# Altium schematic symbol library Schlib1.SchLib: 71 symbols
Pins are listed as number, name and electrical type; pins without a type are passive.

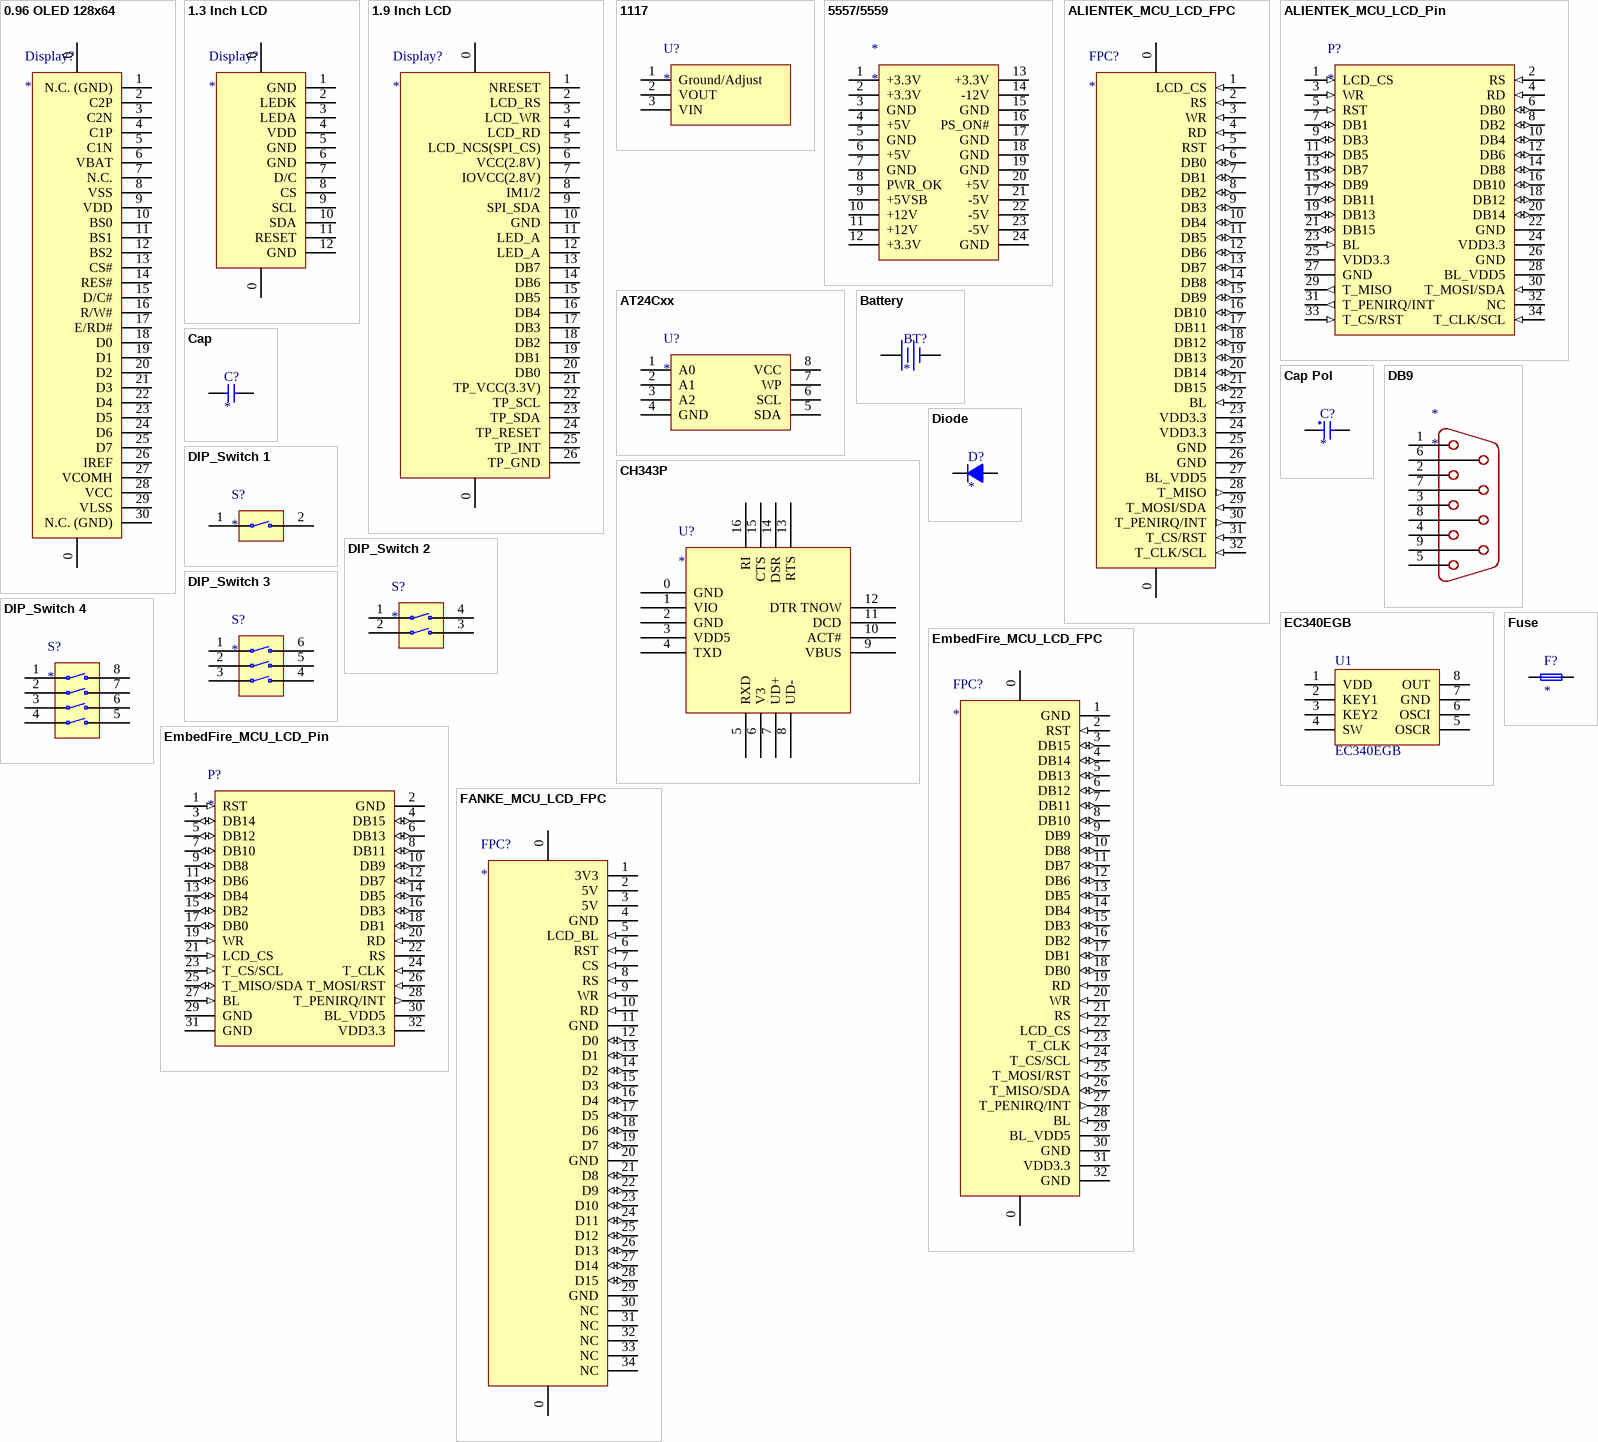
[diagram p0: symbols 0.96 OLED 128x64 to Fuse]

## 0.96 OLED 128x64
designator Display?
0.96 寸 128x64 OLED 显示屏 SSD1306驱动 中景园电子 上接/下接FPC 30P 0.5mm 间距插接式
footprint 0.96 OLED 128x64
pins: 0, 0, 1 N.C. (GND), 2 C2P, 3 C2N, 4 C1P, 5 C1N, 6 VBAT, 7 N.C., 8 VSS, 9 VDD, 10 BS0, 11 BS1, 12 BS2, 13 CS#, 14 RES#, 15 D/C#, 16 R/W#, 17 E/RD#, 18 D0, 19 D1, 20 D2, 21 D3, 22 D4, 23 D5, 24 D6, 25 D7, 26 IREF, 27 VCOMH, 28 VCC, 29 VLSS, 30 N.C. (GND)
1 alternate drawing of the same symbol

## 1.3 Inch LCD
designator Display?
1.3 寸 240x240 LCD 显示屏 ST7789 驱动
pins: 0, 0, 1 GND, 2 LEDK, 3 LEDA, 4 VDD, 5 GND, 6 GND, 7 D/C, 8 CS, 9 SCL, 10 SDA, 11 RESET, 12 GND

## 1.9 Inch LCD
designator Display?
思迈微 1.9 寸 170x320 LCD 显示屏 ST7789V2 驱动 带电容触摸 IC:CST816D
footprint 1.9 Inch LCD
pins: 0, 0, 1 NRESET, 2 LCD_RS, 3 LCD_WR, 4 LCD_RD, 5 LCD_NCS(SPI_CS), 6 VCC(2.8V), 7 IOVCC(2.8V), 8 IM1/2, 9 SPI_SDA, 10 GND, 11 LED_A, 12 LED_A, 13 DB7, 14 DB6, 15 DB5, 16 DB4, 17 DB3, 18 DB2, 19 DB1, 20 DB0, 21 TP_VCC(3.3V), 22 TP_SCL, 23 TP_SDA, 24 TP_RESET, 25 TP_INT, 26 TP_GND
1 alternate drawing of the same symbol

## 1117
designator U?
footprint SOT-89
pins: 1 Ground/Adjust , 2 VOUT, 3 VIN
1 alternate drawing of the same symbol

## 5557/5559
designator *
pins: 1 +3.3V, 2 +3.3V, 3 GND, 4 +5V, 5 GND, 6 +5V, 7 GND, 8 PWR_OK, 9 +5VSB, 10 +12V, 11 +12V, 12 +3.3V, 13 +3.3V, 14 -12V, 15 GND, 16 PS_ON#, 17 GND, 18 GND, 19 GND, 20 +5V, 21 -5V, 22 -5V, 23 -5V, 24 GND

## ALIENTEK_MCU_LCD_FPC
designator FPC?
正点原子MCU LCD屏幕FPC
footprint X05B20L32x (XKB，0.5mm(H=2.0mm)，32P，抽屉式，下接，T:镀锡 G:镀锡)
footprint X05B20U32x (XKB，0.5mm(H=2.0mm)，32P，抽屉式，上接，T:镀锡 G:镀锡)
pins: 0, 0, 1 LCD_CS (in), 2 RS (in), 3 WR (in), 4 RD (in), 5 RST (in), 6 DB0 (io), 7 DB1 (io), 8 DB2 (io), 9 DB3 (io), 10 DB4 (io), 11 DB5 (io), 12 DB6 (io), 13 DB7 (io), 14 DB8 (io), 15 DB9 (io), 16 DB10 (io), 17 DB11 (io), 18 DB12 (io), 19 DB13 (io), 20 DB14 (io), 21 DB15 (io), 22 BL (in), 23 VDD3.3 (power), 24 VDD3.3 (power), 25 GND (power), 26 GND (power), 27 BL_VDD5 (power), 28 T_MISO (out), 29 T_MOSI/SDA (in), 30 T_PENIRQ/INT (out), 31 T_CS/RST (in), 32 T_CLK/SCL (in)
1 alternate drawing of the same symbol

## ALIENTEK_MCU_LCD_Pin
designator P?
正点原子MCU LCD屏幕排针
footprint 2.54mm 2x17P
footprint 2.54mm 2x17P Stand SMD
pins: 1 LCD_CS (in), 2 RS (in), 3 WR (in), 4 RD (in), 5 RST (in), 6 DB0 (io), 7 DB1 (io), 8 DB2 (io), 9 DB3 (io), 10 DB4 (io), 11 DB5 (io), 12 DB6 (io), 13 DB7 (io), 14 DB8 (io), 15 DB9 (io), 16 DB10 (io), 17 DB11 (io), 18 DB12 (io), 19 DB13 (io), 20 DB14 (io), 21 DB15 (io), 22 GND (power), 23 BL (in), 24 VDD3.3 (power), 25 VDD3.3 (power), 26 GND (power), 27 GND (power), 28 BL_VDD5 (power), 29 T_MISO (out), 30 T_MOSI/SDA (in), 31 T_PENIRQ/INT (out), 32 NC, 33 T_CS/RST (in), 34 T_CLK/SCL (in)
1 alternate drawing of the same symbol

## AT24Cxx
designator U?
EEPROM
footprint SOP-8(SOIC-8)
footprint UDFN-8(2x3)
pins: 1 A0, 2 A1, 3 A2, 4 GND, 5 SDA, 6 SCL, 7 WP, 8 VCC
1 alternate drawing of the same symbol

## Battery
designator BT?
footprint BS-12-B3AA003/BS-12-B2AA002 (CR1220 Battery Holder)
footprint BS-12-B3AA011/BS-12-B3AA009 (CR1220 Battery Holder)
footprint CR2450
pins: 1, 2

## Cap
designator C?
footprint 0402-C
footprint 0603-C
footprint 0805-C
footprint 1206-C
footprint 1210-C
pins: 1, 2

## Cap Pol
designator C?
pins: 1, 2

## CH343P
designator U?
USB 转高速串口
footprint QFN-16-EP(3x3)
pins: 0 GND, 1 VIO, 2 GND, 3 VDD5, 4 TXD, 5 RXD, 6 V3, 7 UD+, 8 UD-, 9 VBUS, 10 ACT#, 11 DCD, 12 DTR TNOW, 13 RTS, 14 DSR, 15 CTS, 16 RI
1 alternate drawing of the same symbol

## DB9
designator *
footprint D-Sub 9P female (Ckmtw(灿科盟) D-DMR009PF-D002(C141882))
footprint D-Sub 9P male (Ckmtw(灿科盟) D-DMR009PM-D002(C141880))
pins: 1, 2, 3, 4, 5, 6, 7, 8, 9
1 alternate drawing of the same symbol

## Diode
designator D?
footprint SOD-123
footprint SOD-323
pins: 1, 2

## DIP_Switch 1
designator S?
footprint DSHP01TS-S
pins: 1, 2

## DIP_Switch 2
designator S?
footprint DSHP02TS-S
pins: 1, 2, 3, 4

## DIP_Switch 3
designator S?
footprint DSHP03TS-S
pins: 1, 2, 3, 4, 5, 6

## DIP_Switch 4
designator S?
footprint DSHP04TS-S
pins: 1, 2, 3, 4, 5, 6, 7, 8

## EC340EGB
designator U1
丽晶微电子 定时芯片 (于)
footprint SOP-8(SOIC-8)
pins: 1 VDD, 2 KEY1, 3 KEY2, 4 SW, 5 OSCR, 6 OSCI, 7 GND, 8 OUT

## EmbedFire_MCU_LCD_FPC
designator FPC?
野火电子MCU LCD屏幕FPC
footprint X05B20L32x (XKB，0.5mm(H=2.0mm)，32P，抽屉式，下接，T:镀锡 G:镀锡)
footprint X05B20U32x (XKB，0.5mm(H=2.0mm)，32P，抽屉式，上接，T:镀锡 G:镀锡)
pins: 0, 0, 1 GND (power), 2 RST (in), 3 DB15 (io), 4 DB14 (io), 5 DB13 (io), 6 DB12 (io), 7 DB11 (io), 8 DB10 (io), 9 DB9 (io), 10 DB8 (io), 11 DB7 (io), 12 DB6 (io), 13 DB5 (io), 14 DB4 (io), 15 DB3 (io), 16 DB2 (io), 17 DB1 (io), 18 DB0 (io), 19 RD (in), 20 WR (in), 21 RS (in), 22 LCD_CS (in), 23 T_CLK (in), 24 T_CS/SCL (in), 25 T_MOSI/RST (in), 26 T_MISO/SDA (io), 27 T_PENIRQ/INT (out), 28 BL (in), 29 BL_VDD5 (power), 30 GND (power), 31 VDD3.3 (power), 32 GND (power)
1 alternate drawing of the same symbol

## EmbedFire_MCU_LCD_Pin
designator P?
野火电子MCU LCD屏幕排针
footprint 2.54mm 2x16P
footprint 2.54mm 2x16P Stand SMD
pins: 1 RST (in), 2 GND (power), 3 DB14 (io), 4 DB15 (io), 5 DB12 (io), 6 DB13 (io), 7 DB10 (io), 8 DB11 (io), 9 DB8 (io), 10 DB9 (io), 11 DB6 (io), 12 DB7 (io), 13 DB4 (io), 14 DB5 (io), 15 DB2 (io), 16 DB3 (io), 17 DB0 (io), 18 DB1 (io), 19 WR (in), 20 RD (in), 21 LCD_CS (in), 22 RS (power), 23 T_CS/SCL (in), 24 T_CLK (in), 25 T_MISO/SDA (io), 26 T_MOSI/RST (in), 27 BL (in), 28 T_PENIRQ/INT (out), 29 GND (power), 30 BL_VDD5 (power), 31 GND (power), 32 VDD3.3 (power)
1 alternate drawing of the same symbol

## FANKE_MCU_LCD_FPC
designator FPC?
反客科技MCU LCD屏幕FPC
footprint X05B20L34x (XKB，0.5mm(H=2.0mm)，34P，抽屉式，下接，T:镀锡 G:镀锡)
footprint X05B20U34x (XKB，0.5mm(H=2.0mm)，34P，抽屉式，上接，T:镀锡 G:镀锡)
pins: 0, 0, 1 3V3 (power), 2 5V (power), 3 5V (power), 4 GND (power), 5 LCD_BL (in), 6 RST (in), 7 CS (in), 8 RS (in), 9 WR (in), 10 RD (in), 11 GND (power), 12 D0 (io), 13 D1 (io), 14 D2 (io), 15 D3 (io), 16 D4 (io), 17 D5 (io), 18 D6 (io), 19 D7 (io), 20 GND (power), 21 D8 (io), 22 D9 (io), 23 D10 (io), 24 D11 (io), 25 D12 (io), 26 D13 (io), 27 D14 (io), 28 D15 (io), 29 GND (power), 30 NC, 31 NC, 32 NC, 33 NC, 34 NC

## Fuse
designator F?
footprint 0805-F
pins: 1, 2
1 alternate drawing of the same symbol

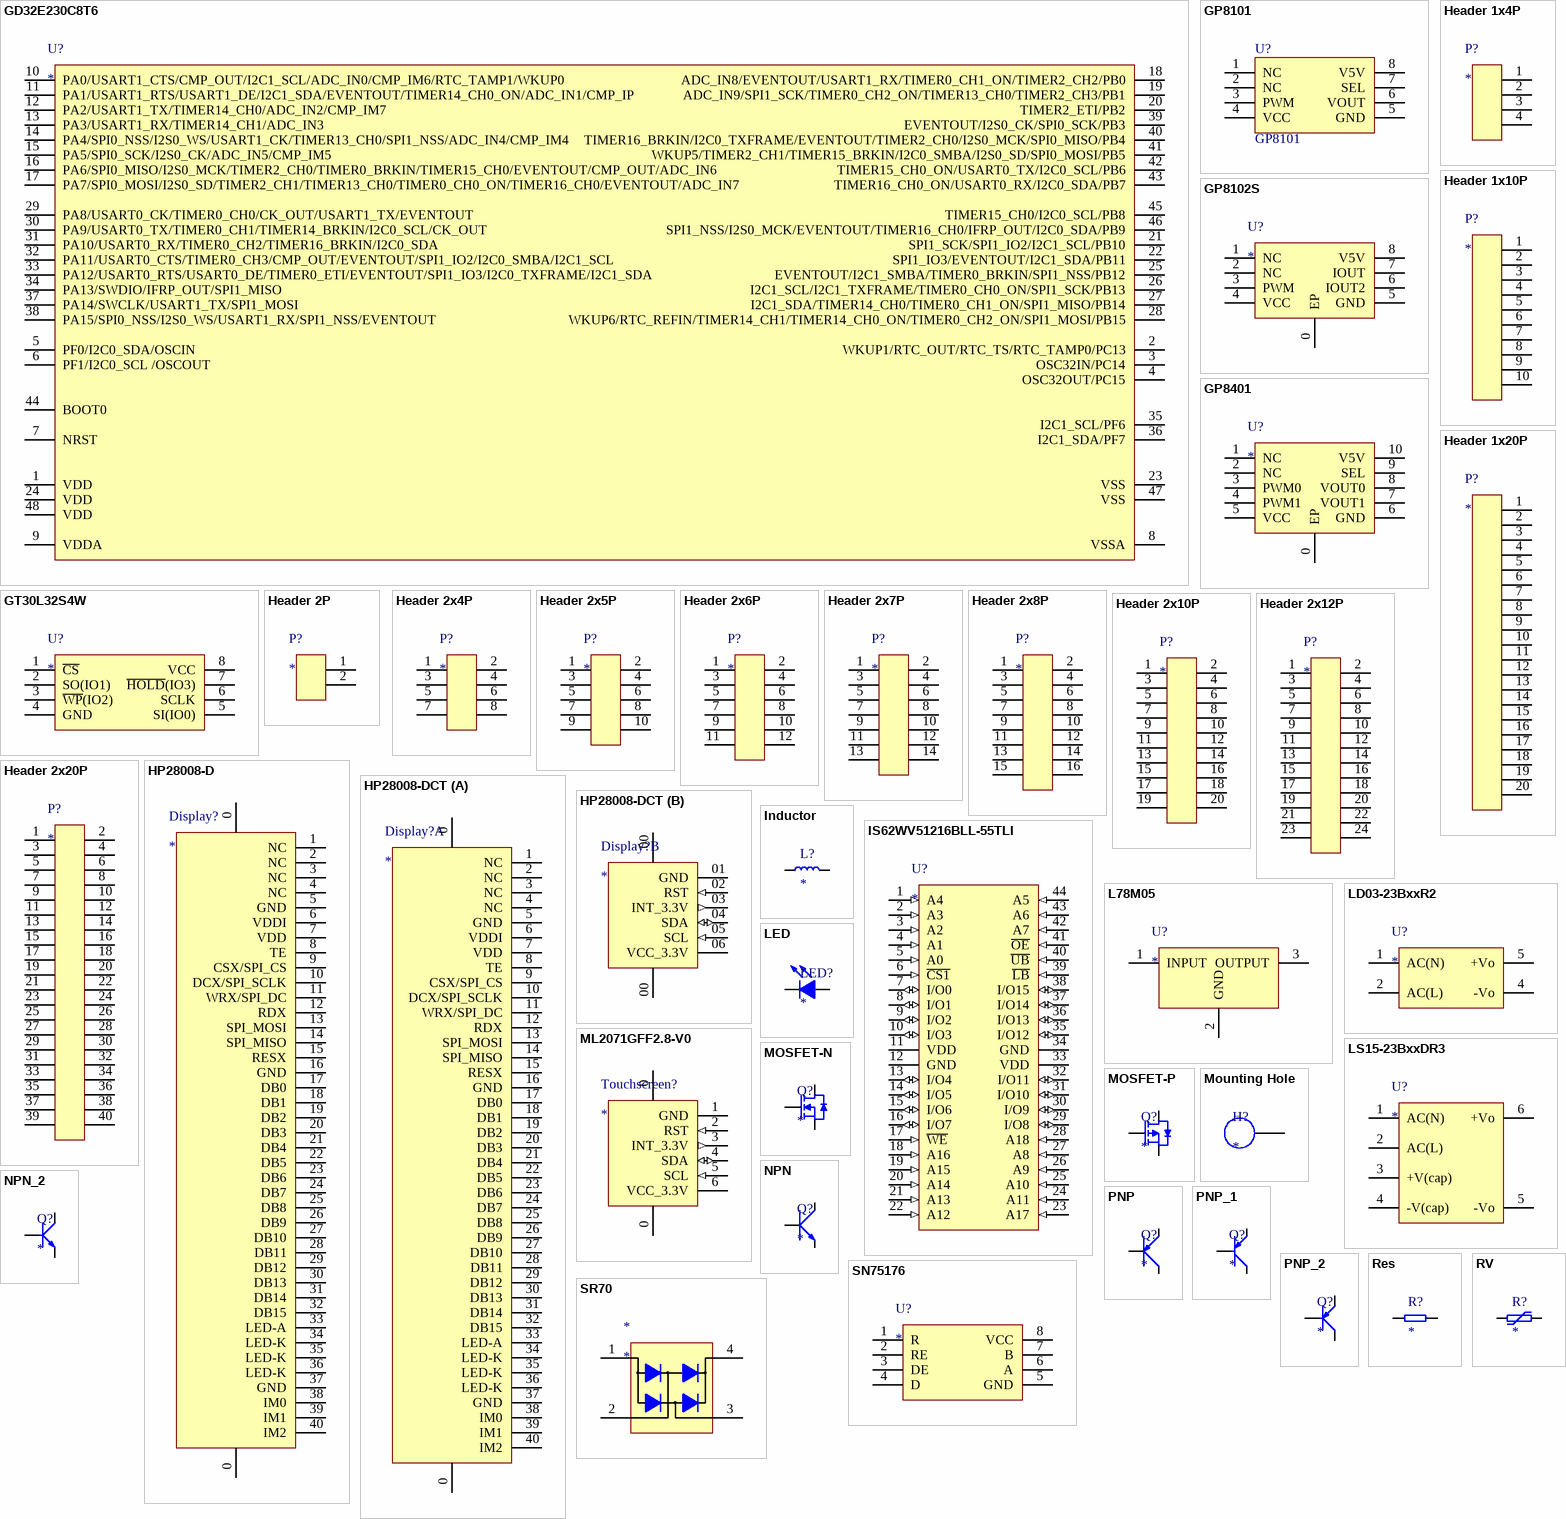
[diagram p1: symbols GD32E230C8T6 to SR70]

## GD32E230C8T6
designator U?
footprint LQFP-48(7x7)
pins: 1 VDD, 2 WKUP1/RTC_OUT/RTC_TS/RTC_TAMP0/PC13, 3 OSC32IN/PC14, 4 OSC32OUT/PC15, 5 PF0/I2C0_SDA/OSCIN, 6 PF1/I2C0_SCL /OSCOUT, 7 NRST, 8 VSSA, 9 VDDA, 10 PA0/USART1_CTS/CMP_OUT/I2C1_SCL/ADC_IN0/CMP_IM6/RTC_TAMP1/WKUP0, 11 PA1/USART1_RTS/USART1_DE/I2C1_SDA/EVENTOUT/TIMER14_CH0_ON/ADC_IN1/CMP_IP, 12 PA2/USART1_TX/TIMER14_CH0/ADC_IN2/CMP_IM7, 13 PA3/USART1_RX/TIMER14_CH1/ADC_IN3, 14 PA4/SPI0_NSS/I2S0_WS/USART1_CK/TIMER13_CH0/SPI1_NSS/ADC_IN4/CMP_IM4, 15 PA5/SPI0_SCK/I2S0_CK/ADC_IN5/CMP_IM5, 16 PA6/SPI0_MISO/I2S0_MCK/TIMER2_CH0/TIMER0_BRKIN/TIMER15_CH0/EVENTOUT/CMP_OUT/ADC_IN6, 17 PA7/SPI0_MOSI/I2S0_SD/TIMER2_CH1/TIMER13_CH0/TIMER0_CH0_ON/TIMER16_CH0/EVENTOUT/ADC_IN7, 18 ADC_IN8/EVENTOUT/USART1_RX/TIMER0_CH1_ON/TIMER2_CH2/PB0, 19 ADC_IN9/SPI1_SCK/TIMER0_CH2_ON/TIMER13_CH0/TIMER2_CH3/PB1, 20 TIMER2_ETI/PB2, 21 SPI1_SCK/SPI1_IO2/I2C1_SCL/PB10, 22 SPI1_IO3/EVENTOUT/I2C1_SDA/PB11, 23 VSS, 24 VDD, 25 EVENTOUT/I2C1_SMBA/TIMER0_BRKIN/SPI1_NSS/PB12, 26 I2C1_SCL/I2C1_TXFRAME/TIMER0_CH0_ON/SPI1_SCK/PB13, 27 I2C1_SDA/TIMER14_CH0/TIMER0_CH1_ON/SPI1_MISO/PB14, 28 WKUP6/RTC_REFIN/TIMER14_CH1/TIMER14_CH0_ON/TIMER0_CH2_ON/SPI1_MOSI/PB15, 29 PA8/USART0_CK/TIMER0_CH0/CK_OUT/USART1_TX/EVENTOUT, 30 PA9/USART0_TX/TIMER0_CH1/TIMER14_BRKIN/I2C0_SCL/CK_OUT, 31 PA10/USART0_RX/TIMER0_CH2/TIMER16_BRKIN/I2C0_SDA, 32 PA11/USART0_CTS/TIMER0_CH3/CMP_OUT/EVENTOUT/SPI1_IO2/I2C0_SMBA/I2C1_SCL, 33 PA12/USART0_RTS/USART0_DE/TIMER0_ETI/EVENTOUT/SPI1_IO3/I2C0_TXFRAME/I2C1_SDA, 34 PA13/SWDIO/IFRP_OUT/SPI1_MISO, 35 I2C1_SCL/PF6, 36 I2C1_SDA/PF7, 37 PA14/SWCLK/USART1_TX/SPI1_MOSI, 38 PA15/SPI0_NSS/I2S0_WS/USART1_RX/SPI1_NSS/EVENTOUT, 39 EVENTOUT/I2S0_CK/SPI0_SCK/PB3, 40 TIMER16_BRKIN/I2C0_TXFRAME/EVENTOUT/TIMER2_CH0/I2S0_MCK/SPI0_MISO/PB4, 41 WKUP5/TIMER2_CH1/TIMER15_BRKIN/I2C0_SMBA/I2S0_SD/SPI0_MOSI/PB5, 42 TIMER15_CH0_ON/USART0_TX/I2C0_SCL/PB6, 43 TIMER16_CH0_ON/USART0_RX/I2C0_SDA/PB7, 44 BOOT0, 45 TIMER15_CH0/I2C0_SCL/PB8, 46 SPI1_NSS/I2S0_MCK/EVENTOUT/TIMER16_CH0/IFRP_OUT/I2C0_SDA/PB9, 47 VSS, 48 VDD
1 alternate drawing of the same symbol

## GP8101
designator U?
0%-100% PWM 转 0-5V/0-10V
footprint SOP-8(SOIC-8)
pins: 1 NC, 2 NC, 3 PWM, 4 VCC, 5 GND, 6 VOUT, 7 SEL, 8 V5V
1 alternate drawing of the same symbol

## GP8102S
designator U?
0%-100% PWM 转0-20mA
footprint SOP-8-EP
pins: 0 EP, 1 NC, 2 NC, 3 PWM, 4 VCC, 5 GND, 6 IOUT2, 7 IOUT, 8 V5V
1 alternate drawing of the same symbol

## GP8401
designator U?
双通道 0%-100% PWM 转 0-5V/0-10V
footprint ESSOP-10(-EP)
pins: 0 EP, 1 NC, 2 NC, 3 PWM0, 4 PWM1, 5 VCC, 6 GND, 7 VOUT1, 8 VOUT0, 9 SEL, 10 V5V
1 alternate drawing of the same symbol

## GT30L32S4W
designator U?
字库芯片
footprint SOIC-8-208mil
pins: 1 ~{CS}, 2 SO(IO1), 3 ~{WP}(IO2), 4 GND, 5 SI(IO0), 6 SCLK, 7 ~{HOLD}(IO3), 8 VCC

## Header 1x4P
designator P?
footprint 2.54mm 1x4P
footprint X8821WRS-04-9TSN (XKB)
footprint X1002WRS-04E-LPSWHF
pins: 1, 2, 3, 4

## Header 1x10P
designator P?
footprint 1.25mm 1x10P (卧贴)
footprint X9821WRS-10-9TSN (XKB)
pins: 1, 2, 3, 4, 5, 6, 7, 8, 9, 10

## Header 1x20P
designator P?
footprint 2.54mm 1x20P
pins: 1, 2, 3, 4, 5, 6, 7, 8, 9, 10, 11, 12, 13, 14, 15, 16, 17, 18, 19, 20

## Header 2P
designator P?
footprint 2.54mm 2P
footprint DB2ERC-3.5-2P-GN
pins: 1, 2
1 alternate drawing of the same symbol

## Header 2x4P
designator P?
footprint 2.54mm 2x4P
footprint 2.54mm 2x4P SMD
pins: 1, 2, 3, 4, 5, 6, 7, 8

## Header 2x5P
designator P?
footprint 2.54mm 2x5P
pins: 1, 2, 3, 4, 5, 6, 7, 8, 9, 10

## Header 2x6P
designator P?
footprint SGDBF-05-012P-Hxx (山谷道电子 0.5mm 12pin Famale)
footprint SGDBF-08-012P-Hxx (山谷道电子 0.8mm 12pin Famale)
footprint SGDBM-05-012P-Hxx (山谷道电子 0.5mm 12pin Male)
footprint SGDBM-08-012P-Hxx (山谷道电子 0.8mm 12pin Male)
pins: 1, 2, 3, 4, 5, 6, 7, 8, 9, 10, 11, 12

## Header 2x7P
designator P?
footprint SGDBF-05-014P-Hxx (山谷道电子 0.5mm 14pin Famale)
footprint SGDBF-08-014P-Hxx (山谷道电子 0.8mm 14pin Famale)
footprint SGDBM-05-014P-Hxx (山谷道电子 0.5mm 14pin Male)
footprint SGDBM-08-014P-Hxx (山谷道电子 0.8mm 14pin Male)
pins: 1, 2, 3, 4, 5, 6, 7, 8, 9, 10, 11, 12, 13, 14

## Header 2x8P
designator P?
footprint SGDBF-05-016P-Hxx (山谷道电子 0.5mm 16pin Famale)
footprint SGDBF-08-016P-Hxx (山谷道电子 0.8mm 16pin Famale)
footprint SGDBM-05-016P-Hxx (山谷道电子 0.5mm 16pin Male)
footprint SGDBM-08-016P-Hxx (山谷道电子 0.8mm 16pin Male)
pins: 1, 2, 3, 4, 5, 6, 7, 8, 9, 10, 11, 12, 13, 14, 15, 16

## Header 2x10P
designator P?
footprint 2.54mm 2x10P
pins: 1, 2, 3, 4, 5, 6, 7, 8, 9, 10, 11, 12, 13, 14, 15, 16, 17, 18, 19, 20

## Header 2x12P
designator P?
footprint 2.54mm 2x12P SMD
footprint 2.54mm 2x12P
pins: 1, 2, 3, 4, 5, 6, 7, 8, 9, 10, 11, 12, 13, 14, 15, 16, 17, 18, 19, 20, 21, 22, 23, 24

## Header 2x20P
designator P?
footprint 2.54mm 2x20P
pins: 1, 2, 3, 4, 5, 6, 7, 8, 9, 10, 11, 12, 13, 14, 15, 16, 17, 18, 19, 20, 21, 22, 23, 24, 25, 26, 27, 28, 29, 30, 31, 32, 33, 34, 35, 36, 37, 38, 39, 40

## HP28008-D
designator Display?
耀元鸿科技2.8英寸IPS 240x320 ST7789V
pins: 0, 0, 1 NC, 2 NC, 3 NC, 4 NC, 5 GND, 6 VDDI, 7 VDD, 8 TE, 9 CSX/SPI_CS, 10 DCX/SPI_SCLK, 11 WRX/SPI_DC, 12 RDX, 13 SPI_MOSI, 14 SPI_MISO, 15 RESX, 16 GND, 17 DB0, 18 DB1, 19 DB2, 20 DB3, 21 DB4, 22 DB5, 23 DB6, 24 DB7, 25 DB8, 26 DB9, 27 DB10, 28 DB11, 29 DB12, 30 DB13, 31 DB14, 32 DB15, 33 LED-A, 34 LED-K, 35 LED-K, 36 LED-K, 37 GND, 38 IM0, 39 IM1, 40 IM2
1 alternate drawing of the same symbol

## HP28008-DCT
designator Display?
耀元鸿科技2.8英寸显示屏(HP28008-D)+电容触摸(ML2071GFF2.8-V0)总成
part A pins: 0, 0, 1 NC, 2 NC, 3 NC, 4 NC, 5 GND, 6 VDDI, 7 VDD, 8 TE, 9 CSX/SPI_CS, 10 DCX/SPI_SCLK, 11 WRX/SPI_DC, 12 RDX, 13 SPI_MOSI, 14 SPI_MISO, 15 RESX, 16 GND, 17 DB0, 18 DB1, 19 DB2, 20 DB3, 21 DB4, 22 DB5, 23 DB6, 24 DB7, 25 DB8, 26 DB9, 27 DB10, 28 DB11, 29 DB12, 30 DB13, 31 DB14, 32 DB15, 33 LED-A, 34 LED-K, 35 LED-K, 36 LED-K, 37 GND, 38 IM0, 39 IM1, 40 IM2
part B pins: 00, 00, 01 GND (power), 02 RST (in), 03 INT_3.3V (out), 04 SDA (io), 05 SCL (in), 06 VCC_3.3V (power)
1 alternate drawing of the same symbol

## Inductor
designator L?
footprint 0402-L
footprint 0603-L
footprint 0805-L
pins: 1, 2

## IS62WV51216BLL-55TLI
designator U?
SRAM
footprint TSOPII-44
pins: 1 A4 (in), 2 A3 (in), 3 A2 (in), 4 A1 (in), 5 A0 (in), 6 ~{CS1} (in), 7 I/O0 (io), 8 I/O1 (io), 9 I/O2 (io), 10 I/O3 (io), 11 VDD (power), 12 GND (power), 13 I/O4 (io), 14 I/O5 (io), 15 I/O6 (io), 16 I/O7 (io), 17 ~{WE} (in), 18 A16 (in), 19 A15 (in), 20 A14 (in), 21 A13 (in), 22 A12 (in), 23 A17 (in), 24 A11 (in), 25 A10 (in), 26 A9 (in), 27 A8 (in), 28 A18 (in), 29 I/O8 (io), 30 I/O9 (io), 31 I/O10 (io), 32 I/O11 (io), 33 VDD (power), 34 GND (power), 35 I/O12 (io), 36 I/O13 (io), 37 I/O14 (io), 38 I/O15 (io), 39 ~{LB} (in), 40 ~{UB} (in), 41 ~{OE} (in), 42 A7 (in), 43 A6 (in), 44 A5 (in)
1 alternate drawing of the same symbol

## L78M05
designator U?
footprint TO-252(DPAK)
pins: 1 INPUT, 2 GND, 3 OUTPUT

## LD03-23BxxR2
designator U?
金升阳电源模块
footprint LD03-23BxxR2
pins: 1 AC(N), 2 AC(L), 4 -Vo, 5 +Vo

## LED
designator LED?
footprint 0603-LED
footprint 0805-LED
footprint 0402-LED
pins: 1, 2

## LS15-23BxxDR3
designator U?
金升阳15W，DIY型AC-DC模块电源
footprint LS15-23BxxDR3
pins: 1 AC(N), 2 AC(L), 3 +V(cap), 4 -V(cap), 5 -Vo, 6 +Vo

## ML2071GFF2.8-V0
designator Touchscreen?
耀元鸿科技2.8英寸电容触摸 GT911
pins: 0, 0, 1 GND (power), 2 RST (in), 3 INT_3.3V (out), 4 SDA (io), 5 SCL (in), 6 VCC_3.3V (power)
1 alternate drawing of the same symbol

## MOSFET-N
designator Q?
footprint SOT-23-3
pins: 1 D, 2 G, 3 S

## MOSFET-P
designator Q?
footprint SOT-23-3
pins: 1 D, 2 G, 3 S

## Mounting Hole
designator H?
footprint M2 (M2 螺丝孔)
footprint M2(Raspberry Pi) (M2 螺丝孔 树莓派尺寸)
footprint M2 Plated (M2 金属化螺丝孔)
footprint M2 Plated(Raspberry Pi) (M2 金属化螺丝孔 树莓派尺寸)
pins: 0

## NPN
designator Q?
footprint SOT-23-3
pins: 1 D, 2 G, 3 S

## NPN_2
designator Q?
footprint SOT-23-3
pins: 1 D, 2 G, 3 S

## PNP
designator Q?
footprint SOT-23-3
pins: 1 B, 2 E, 3 C

## PNP_1
designator Q?
footprint SOT-23-3
pins: 1 B, 2 E, 3 C

## PNP_2
designator Q?
footprint SOT-23-3
pins: 1 D, 2 G, 3 S

## Res
designator R?
footprint 0402-R
footprint 0603-R
footprint 0805-R
footprint 1206-R
footprint 1210-R
pins: 1, 2
1 alternate drawing of the same symbol

## RV
designator R?
footprint 10D561K
pins: 1, 2
1 alternate drawing of the same symbol

## SN75176
designator U?
footprint SOP-8(SOIC-8)
pins: 1 R, 2 RE, 3 DE, 4 D, 5 GND, 6 A, 7 B, 8 VCC

## SR70
designator *
footprint SOT-143-4
pins: 1, 2, 3, 4

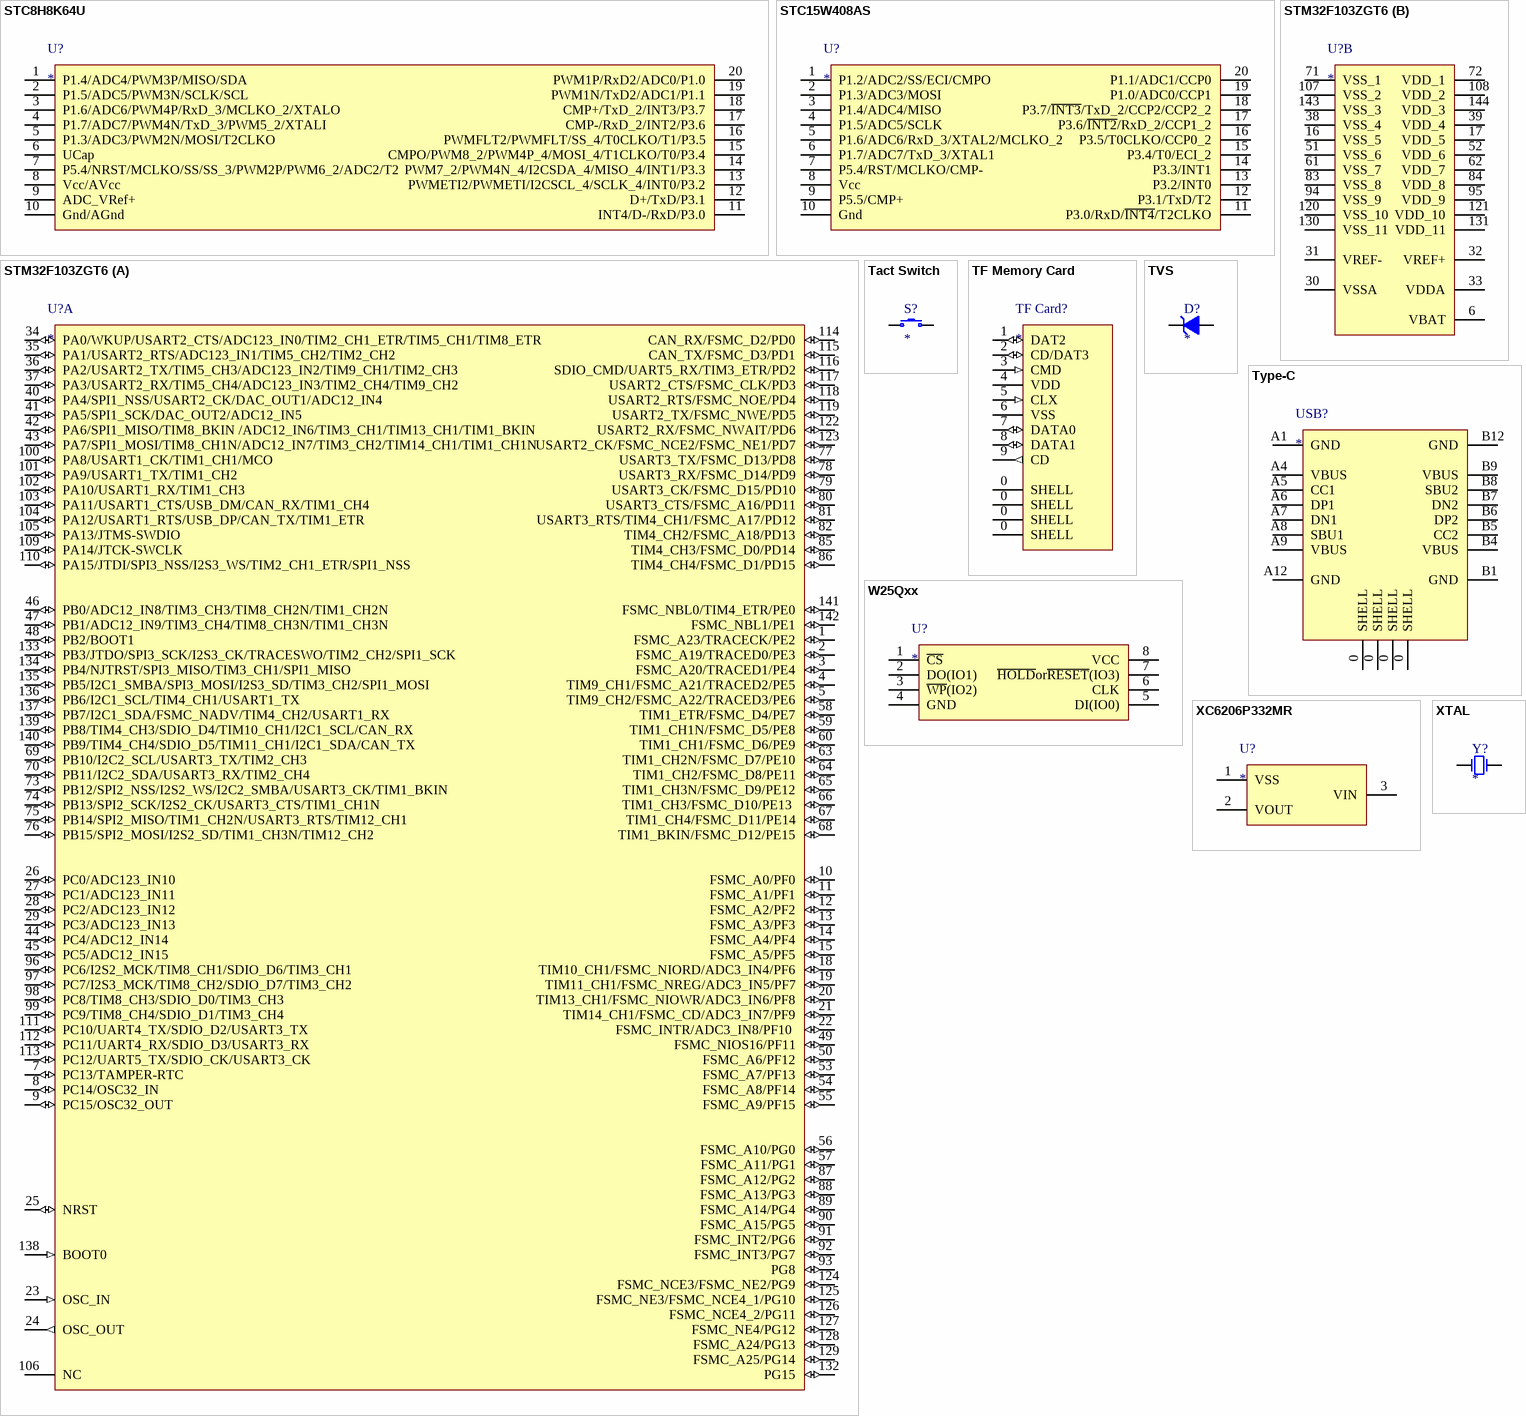
[diagram p2: symbols STC8H8K64U to XTAL]

## STC8H8K64U
designator U?
footprint TSSOP-20
pins: 1 P1.4/ADC4/PWM3P/MISO/SDA, 2 P1.5/ADC5/PWM3N/SCLK/SCL, 3 P1.6/ADC6/PWM4P/RxD_3/MCLKO_2/XTALO, 4 P1.7/ADC7/PWM4N/TxD_3/PWM5_2/XTALI, 5 P1.3/ADC3/PWM2N/MOSI/T2CLKO, 6 UCap, 7 P5.4/NRST/MCLKO/SS/SS_3/PWM2P/PWM6_2/ADC2/T2, 8 Vcc/AVcc, 9 ADC_VRef+, 10 Gnd/AGnd, 11 INT4/D-/RxD/P3.0, 12 D+/TxD/P3.1, 13 PWMETI2/PWMETI/I2CSCL_4/SCLK_4/INT0/P3.2, 14 PWM7_2/PWM4N_4/I2CSDA_4/MISO_4/INT1/P3.3, 15 CMPO/PWM8_2/PWM4P_4/MOSI_4/T1CLKO/T0/P3.4, 16 PWMFLT2/PWMFLT/SS_4/T0CLKO/T1/P3.5, 17 CMP-/RxD_2/INT2/P3.6, 18 CMP+/TxD_2/INT3/P3.7, 19 PWM1N/TxD2/ADC1/P1.1, 20 PWM1P/RxD2/ADC0/P1.0

## STC15W408AS
designator U?
footprint TSSOP-20
pins: 1 P1.2/ADC2/SS/ECI/CMPO, 2 P1.3/ADC3/MOSI, 3 P1.4/ADC4/MISO, 4 P1.5/ADC5/SCLK, 5 P1.6/ADC6/RxD_3/XTAL2/MCLKO_2, 6 P1.7/ADC7/TxD_3/XTAL1, 7 P5.4/RST/MCLKO/CMP-, 8 Vcc, 9 P5.5/CMP+, 10 Gnd, 11 P3.0/RxD/~{INT4}/T2CLKO, 12 P3.1/TxD/T2, 13 P3.2/INT0, 14 P3.3/INT1, 15 P3.4/T0/ECI_2, 16 P3.5/T0CLKO/CCP0_2, 17 P3.6/~{INT2}/RxD_2/CCP1_2, 18 P3.7/~{INT3}/TxD_2/CCP2/CCP2_2, 19 P1.0/ADC0/CCP1, 20 P1.1/ADC1/CCP0

## STM32F103ZGT6
designator U?
footprint LQFP-144(20x20)
part A pins: 1 FSMC_A23/TRACECK/PE2 (io), 2 FSMC_A19/TRACED0/PE3 (io), 3 FSMC_A20/TRACED1/PE4 (io), 4 TIM9_CH1/FSMC_A21/TRACED2/PE5 (io), 5 TIM9_CH2/FSMC_A22/TRACED3/PE6 (io), 7 PC13/TAMPER-RTC (io), 8 PC14/OSC32_IN (io), 9 PC15/OSC32_OUT (io), 10 FSMC_A0/PF0 (io), 11 FSMC_A1/PF1 (io), 12 FSMC_A2/PF2 (io), 13 FSMC_A3/PF3 (io), 14 FSMC_A4/PF4 (io), 15 FSMC_A5/PF5 (io), 18 TIM10_CH1/FSMC_NIORD/ADC3_IN4/PF6 (io), 19 TIM11_CH1/FSMC_NREG/ADC3_IN5/PF7 (io), 20 TIM13_CH1/FSMC_NIOWR/ADC3_IN6/PF8 (io), 21 TIM14_CH1/FSMC_CD/ADC3_IN7/PF9 (io), 22 FSMC_INTR/ADC3_IN8/PF10  (io), 23 OSC_IN (in), 24 OSC_OUT (out), 25 NRST (io), 26 PC0/ADC123_IN10 (io), 27 PC1/ADC123_IN11 (io), 28 PC2/ADC123_IN12 (io), 29 PC3/ADC123_IN13 (io), 34 PA0/WKUP/USART2_CTS/ADC123_IN0/TIM2_CH1_ETR/TIM5_CH1/TIM8_ETR (io), 35 PA1/USART2_RTS/ADC123_IN1/TIM5_CH2/TIM2_CH2 (io), 36 PA2/USART2_TX/TIM5_CH3/ADC123_IN2/TIM9_CH1/TIM2_CH3 (io), 37 PA3/USART2_RX/TIM5_CH4/ADC123_IN3/TIM2_CH4/TIM9_CH2 (io), 40 PA4/SPI1_NSS/USART2_CK/DAC_OUT1/ADC12_IN4 (io), 41 PA5/SPI1_SCK/DAC_OUT2/ADC12_IN5 (io), 42 PA6/SPI1_MISO/TIM8_BKIN /ADC12_IN6/TIM3_CH1/TIM13_CH1/TIM1_BKIN (io), 43 PA7/SPI1_MOSI/TIM8_CH1N/ADC12_IN7/TIM3_CH2/TIM14_CH1/TIM1_CH1N (io), 44 PC4/ADC12_IN14 (io), 45 PC5/ADC12_IN15 (io), 46 PB0/ADC12_IN8/TIM3_CH3/TIM8_CH2N/TIM1_CH2N (io), 47 PB1/ADC12_IN9/TIM3_CH4/TIM8_CH3N/TIM1_CH3N (io), 48 PB2/BOOT1 (io), 49 FSMC_NIOS16/PF11 (io), 50 FSMC_A6/PF12 (io), 53 FSMC_A7/PF13 (io), 54 FSMC_A8/PF14 (io), 55 FSMC_A9/PF15 (io), 56 FSMC_A10/PG0 (io), 57 FSMC_A11/PG1 (io), 58 TIM1_ETR/FSMC_D4/PE7 (io), 59 TIM1_CH1N/FSMC_D5/PE8 (io), 60 TIM1_CH1/FSMC_D6/PE9 (io), 63 TIM1_CH2N/FSMC_D7/PE10 (io), 64 TIM1_CH2/FSMC_D8/PE11 (io), 65 TIM1_CH3N/FSMC_D9/PE12 (io), 66 TIM1_CH3/FSMC_D10/PE13  (io), 67 TIM1_CH4/FSMC_D11/PE14 (io), 68 TIM1_BKIN/FSMC_D12/PE15 (io), 69 PB10/I2C2_SCL/USART3_TX/TIM2_CH3 (io), 70 PB11/I2C2_SDA/USART3_RX/TIM2_CH4 (io), 73 PB12/SPI2_NSS/I2S2_WS/I2C2_SMBA/USART3_CK/TIM1_BKIN (io), 74 PB13/SPI2_SCK/I2S2_CK/USART3_CTS/TIM1_CH1N (io), 75 PB14/SPI2_MISO/TIM1_CH2N/USART3_RTS/TIM12_CH1 (io), 76 PB15/SPI2_MOSI/I2S2_SD/TIM1_CH3N/TIM12_CH2 (io), 77 USART3_TX/FSMC_D13/PD8 (io), 78 USART3_RX/FSMC_D14/PD9 (io), 79 USART3_CK/FSMC_D15/PD10 (io), 80 USART3_CTS/FSMC_A16/PD11 (io), 81 USART3_RTS/TIM4_CH1/FSMC_A17/PD12 (io), 82 TIM4_CH2/FSMC_A18/PD13 (io), 85 TIM4_CH3/FSMC_D0/PD14 (io), 86 TIM4_CH4/FSMC_D1/PD15 (io), 87 FSMC_A12/PG2 (io), 88 FSMC_A13/PG3 (io), 89 FSMC_A14/PG4 (io), 90 FSMC_A15/PG5 (io), 91 FSMC_INT2/PG6 (io), 92 FSMC_INT3/PG7 (io), 93 PG8 (io), 96 PC6/I2S2_MCK/TIM8_CH1/SDIO_D6/TIM3_CH1 (io), 97 PC7/I2S3_MCK/TIM8_CH2/SDIO_D7/TIM3_CH2 (io), 98 PC8/TIM8_CH3/SDIO_D0/TIM3_CH3 (io), 99 PC9/TIM8_CH4/SDIO_D1/TIM3_CH4 (io), 100 PA8/USART1_CK/TIM1_CH1/MCO (io), 101 PA9/USART1_TX/TIM1_CH2 (io), 102 PA10/USART1_RX/TIM1_CH3 (io), 103 PA11/USART1_CTS/USB_DM/CAN_RX/TIM1_CH4 (io), 104 PA12/USART1_RTS/USB_DP/CAN_TX/TIM1_ETR (io), 105 PA13/JTMS-SWDIO (io), 106 NC, 109 PA14/JTCK-SWCLK (io), 110 PA15/JTDI/SPI3_NSS/I2S3_WS/TIM2_CH1_ETR/SPI1_NSS (io), 111 PC10/UART4_TX/SDIO_D2/USART3_TX (io), 112 PC11/UART4_RX/SDIO_D3/USART3_RX (io), 113 PC12/UART5_TX/SDIO_CK/USART3_CK (io), 114 CAN_RX/FSMC_D2/PD0 (io), 115 CAN_TX/FSMC_D3/PD1 (io), 116 SDIO_CMD/UART5_RX/TIM3_ETR/PD2 (io), 117 USART2_CTS/FSMC_CLK/PD3 (io), 118 USART2_RTS/FSMC_NOE/PD4 (io), 119 USART2_TX/FSMC_NWE/PD5 (io), 122 USART2_RX/FSMC_NWAIT/PD6 (io), 123 USART2_CK/FSMC_NCE2/FSMC_NE1/PD7 (io), 124 FSMC_NCE3/FSMC_NE2/PG9 (io), 125 FSMC_NE3/FSMC_NCE4_1/PG10 (io), 126 FSMC_NCE4_2/PG11 (io), 127 FSMC_NE4/PG12 (io), 128 FSMC_A24/PG13 (io), 129 FSMC_A25/PG14 (io), 132 PG15 (io), 133 PB3/JTDO/SPI3_SCK/I2S3_CK/TRACESWO/TIM2_CH2/SPI1_SCK (io), 134 PB4/NJTRST/SPI3_MISO/TIM3_CH1/SPI1_MISO (io), 135 PB5/I2C1_SMBA/SPI3_MOSI/I2S3_SD/TIM3_CH2/SPI1_MOSI (io), 136 PB6/I2C1_SCL/TIM4_CH1/USART1_TX (io), 137 PB7/I2C1_SDA/FSMC_NADV/TIM4_CH2/USART1_RX (io), 138 BOOT0 (in), 139 PB8/TIM4_CH3/SDIO_D4/TIM10_CH1/I2C1_SCL/CAN_RX (io), 140 PB9/TIM4_CH4/SDIO_D5/TIM11_CH1/I2C1_SDA/CAN_TX (io), 141 FSMC_NBL0/TIM4_ETR/PE0 (io), 142 FSMC_NBL1/PE1 (io)
part B pins: 6 VBAT (power), 16 VSS_5 (power), 17 VDD_5 (power), 30 VSSA (power), 31 VREF- (power), 32 VREF+ (power), 33 VDDA (power), 38 VSS_4 (power), 39 VDD_4 (power), 51 VSS_6 (power), 52 VDD_6 (power), 61 VSS_7 (power), 62 VDD_7 (power), 71 VSS_1 (power), 72 VDD_1 (power), 83 VSS_8 (power), 84 VDD_8 (power), 94 VSS_9 (power), 95 VDD_9 (power), 107 VSS_2 (power), 108 VDD_2 (power), 120 VSS_10 (power), 121 VDD_10 (power), 130 VSS_11 (power), 131 VDD_11 (power), 143 VSS_3 (power), 144 VDD_3 (power)
1 alternate drawing of the same symbol

## Tact Switch
designator S?
footprint Tact Switch(6x6x5)
footprint K6-6280S
footprint TS-1185
footprint TS-3025 (XKB)
pins: 1, 2
2 alternate drawings of the same symbol

## TF Memory Card
designator TF Card?
footprint XKTF-015-N/XKTF-015-G (TF Memory Card Connector)
pins: 0 SHELL, 0 SHELL, 0 SHELL, 0 SHELL, 1 DAT2 (io), 2 CD/DAT3 (io), 3 CMD (in), 4 VDD (power), 5 CLX (in), 6 VSS (power), 7 DATA0 (io), 8 DATA1 (io), 9 CD (out)

## TVS
designator D?
footprint SMA(DO-214AC)
footprint SMB(DO-214AA)
footprint SMC(DO-214AB)
pins: 1, 2
1 alternate drawing of the same symbol

## Type-C
designator USB?
footprint Type-C
footprint Type-C_2
pins: 0 SHELL, 0 SHELL, 0 SHELL, 0 SHELL, A1 GND, A4 VBUS, A5 CC1, A6 DP1, A7 DN1, A8 SBU1, A9 VBUS, A12 GND, B1 GND, B4 VBUS, B5 CC2, B6 DP2, B7 DN2, B8 SBU2, B9 VBUS, B12 GND
2 alternate drawings of the same symbol

## W25Qxx
designator U?
NOR FLASH
footprint SOIC-8-208mil
footprint USON-8-EP(2x3)
pins: 1 ~{CS}, 2 DO(IO1), 3 ~{WP}(IO2), 4 GND, 5 DI(IO0), 6 CLK, 7 ~{HOLD}or~{RESET}(IO3), 8 VCC
1 alternate drawing of the same symbol

## XC6206P332MR
designator U?
线性稳压器(LDO)
footprint SOT-23-3
pins: 1 VSS, 2 VOUT, 3 VIN

## XTAL
designator Y?
footprint SMD3225-4p
footprint SMD3215-2P
pins: 1, 2
2 alternate drawings of the same symbol